# Altium schematic symbol library ECE453Spring16.SchLib: 43 symbols
Pins are listed as number, name and electrical type; pins without a type are passive.

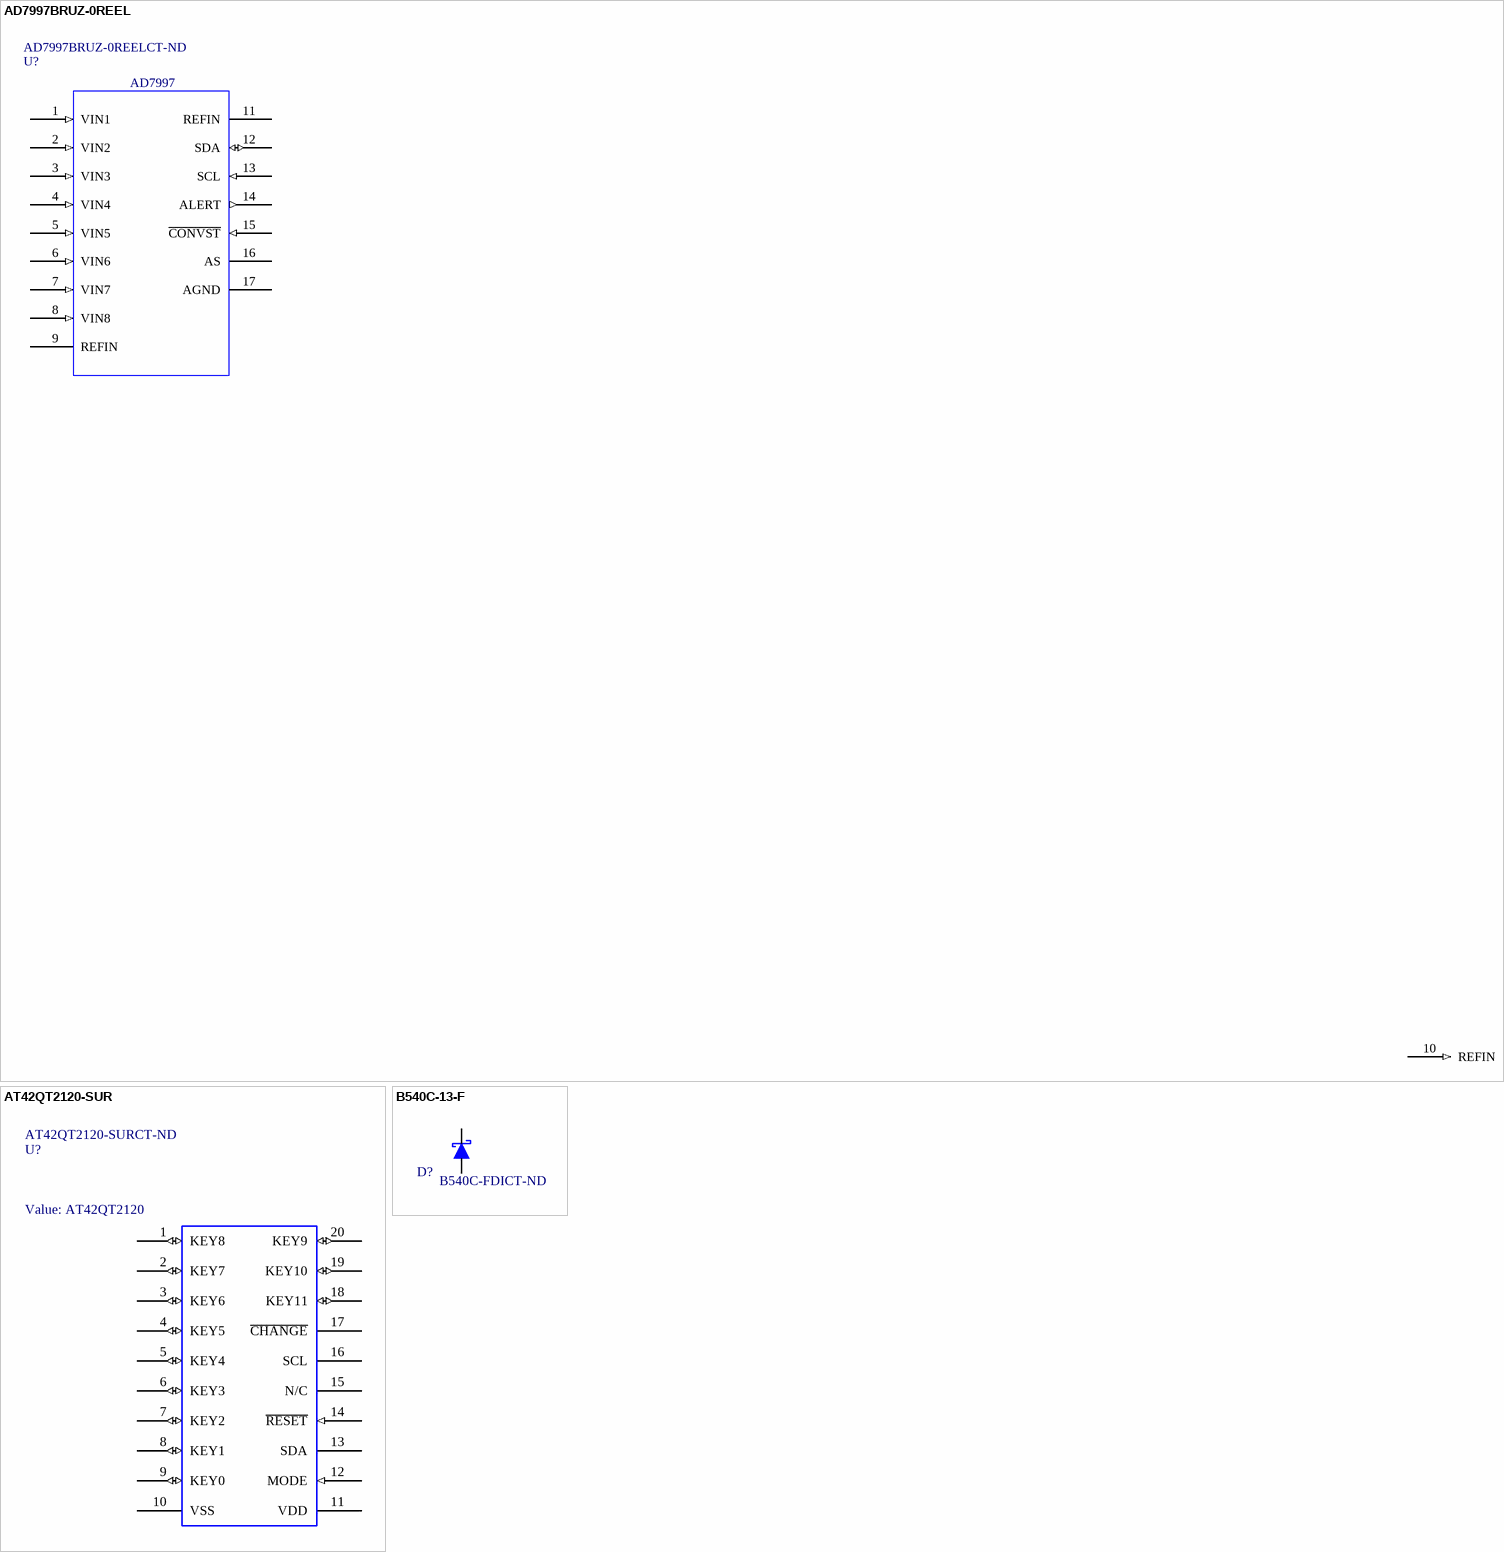
[diagram p0: symbols AD7997BRUZ-0REEL to B540C-13-F]

## AD7997BRUZ-0REEL
designator U?  value AD7997  Supplier Part Number 1: AD7997BRUZ-0REELCT-ND  (hidden comment: AD7997BRUZ-0REEL)
ADC- 8 channel for flex sensors; Manufacturer: Analog Devices Inc.; Number of Bits: 10; Sampling Rate (Per Second): 188k; Number of Inputs: 8; Input Type: Single Ended; Data Interface: I²C; Configuration: MUX-S/H-ADC; Ratio - S/H:ADC: 1:1; Number of A/D Converters: 1; Architecture: SAR; Reference Type: External; Voltage - Supply, Analog: 2.7 V ~ 5.5 V; Supplier 1: Digi-Key; Manufacturer Part Number: AD7997BRUZ-0REEL; RoHS: RoHS Compliant; Category: Integrated Circuits (ICs); Stock 1: 3543; Pricing 1: 1=5.65, 10=5.074, 100=4.1627, 500=3.54142, 1000=2.98224 (USD); Packaging: Cut Tape (CT); Voltage - Supply, Digital: 2.7 V ~ 5.5 V; Features: -; Operating Temperature: -40°C ~ 85°C; Package / Case: 20-TSSOP (0.173", 4.40mm Width); Supplier Device Package: 20-TSSOP; ComponentLink1URL: http://www.analog.com/media/en/technical-documentation/data-sheets/AD7997_7998.pdf; ComponentLink1Description: http://www.analog.com/media/en/technical-documentation/data-sheets/AD7997_7998.pdf
pins: 1 VIN1 (in), 2 VIN2 (in), 3 VIN3 (in), 4 VIN4 (in), 5 VIN5 (in), 6 VIN6 (in), 7 VIN7 (in), 8 VIN8 (in), 9 REFIN, 10 REFIN (in), 11 REFIN, 12 SDA (io), 13 SCL (in), 14 ALERT (out), 15 ~{CONVST} (in), 16 AS, 17 AGND

## AT42QT2120-SUR
designator U?  value AT42QT2120  Supplier Part Number 1: AT42QT2120-SURCT-ND  (hidden comment: AT42QT2120-SUR)
IC TOUCH SENSOR 12CH 20SOIC; Manufacturer: Atmel; Proximity Detection: Yes; Number of Inputs: Up to 12; LED Driver Channels: Up to 10; Interface: I²C; Voltage - Supply: 1.8 V ~ 5.5 V; Supplier 1: Digi-Key; Manufacturer Part Number: AT42QT2120-SUR; RoHS: RoHS Compliant; Category: Sensors, Transducers; Stock 1: 1214; Pricing 1: 1=2.7, 10=2.436, 25=2.1828, 100=1.9627, 250=1.74276, 500=1.5228 (USD); Packaging: Cut Tape (CT); Type: Buttons, Slider, Wheel; Resolution: -; Current - Supply: -; Operating Temperature: -40°C ~ 85°C; Package / Case: 20-SOIC (0.295", 7.50mm Width); Supplier Device Package: 20-SOIC; ComponentLink1URL: http://www.atmel.com/images/doc9634.pdf; ComponentLink1Description: http://www.atmel.com/images/doc9634.pdf
footprint SOIC127P1030X265-20N (SOIC, 20-Leads, Body 12.80x7.50mm, Pitch 1.27mm, IPC Medium Density)
pins: 1 KEY8 (io), 2 KEY7 (io), 3 KEY6 (io), 4 KEY5 (io), 5 KEY4 (io), 6 KEY3 (io), 7 KEY2 (io), 8 KEY1 (io), 9 KEY0 (io), 10 VSS, 11 VDD, 12 MODE (in), 13 SDA, 14 ~{RESET} (in), 15 N/C, 16 SCL, 17 ~{CHANGE}, 18 KEY11 (io), 19 KEY10 (io), 20 KEY9 (io)

## B540C-13-F
designator D?  Supplier Part Number 1: B540C-FDICT-ND  (hidden comment: *)
5A pwr regulator diode; Manufacturer: Diodes Incorporated; Manufacturer Part Number: B540C-13-F; Description: DIODE SCHOTTKY 40V 5A SMC; Diode Type: Schottky; Voltage - DC Reverse (Vr) (Max): 40V; Voltage - Forward (Vf) (Max) @ If: 550mV @ 5A; Speed: Fast Recovery =< 500ns, > 200mA (Io); Current - Reverse Leakage @ Vr: 500µA @ 40V; Capacitance @ Vr, F: 300pF @ 4V, 1MHz; Supplier 1: Digi-Key; RoHS: RoHS Compliant; Category: Discrete Semiconductor Products; Stock 1: 29411; Pricing 1: 1=0.5, 10=0.426, 100=0.3179, 500=0.2497, 1000=0.1925 (USD); Packaging: Cut Tape (CT); Current - Average Rectified (Io): 5A; Reverse Recovery Time (trr): -; Mounting Type: Surface Mount; Package / Case: DO-214AB, SMC; Supplier Device Package: SMC; Operating Temperature - Junction: -55°C ~ 125°C; ComponentLink1URL: http://www.diodes.com/_files/datasheets/ds13012.pdf; ComponentLink1Description: http://www.diodes.com/_files/datasheets/ds13012.pdf
pins: ?1, ?2

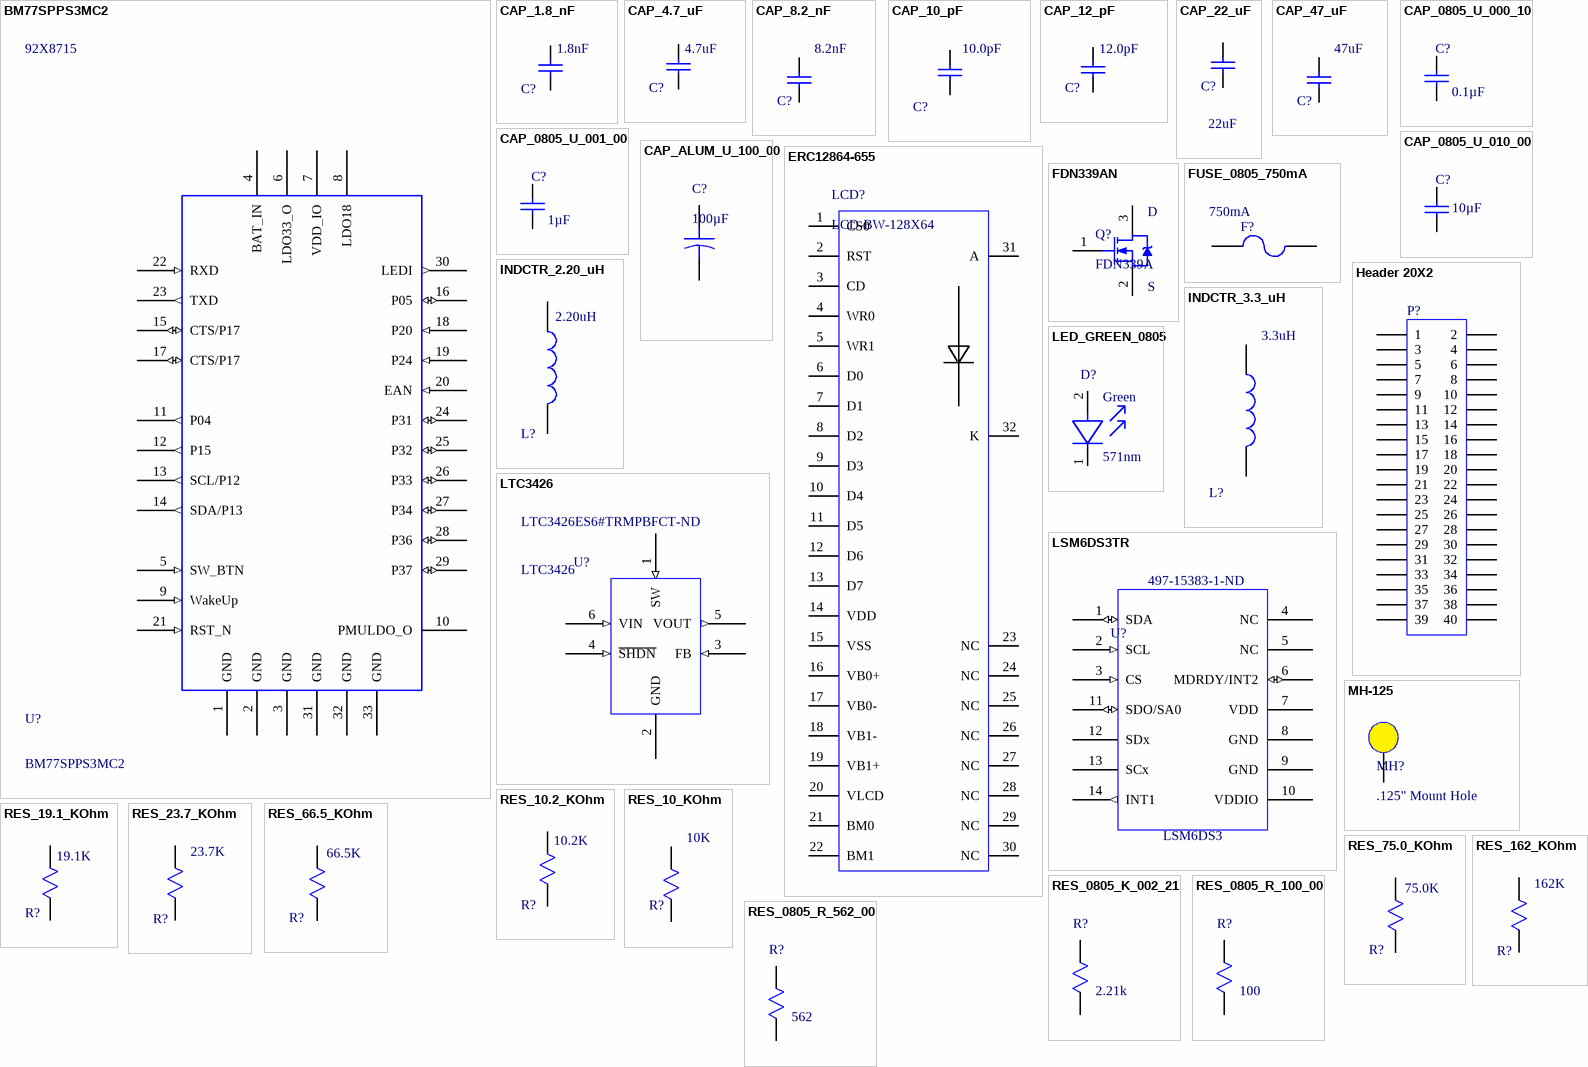
[diagram p1: symbols BM77SPPS3MC2 to RES_0805_R_562_00]

## BM77SPPS3MC2
designator U?  Supplier Part Number 1: 92X8715  (hidden comment: BM77SPPS3MC2)
Bluetooth BM77SPPS3MC2; Manufacturer: MICROCHIP; Manufacturer Part Number: BM77SPPS3MC2-0007AA; Supplier 1: Newark; RoHS: YES; Stock 1: 58; Pricing 1: 1=9.36, 26=8.49, 100=8.06 (USD); ComponentLink1URL: http://www.farnell.com/datasheets/1884772.pdf; ComponentLink1Description: http://www.farnell.com/datasheets/1884772.pdf; ComponentLink2URL: http://www.farnell.com/product360s/BM77SPPS3MC2-0007AA.php; ComponentLink2Description: http://www.farnell.com/product360s/BM77SPPS3MC2-0007AA.php; Value: BM77SPPS3MC2
footprint BM77SPPS3MC2 (Bluetooth BM77SPPS3MC2)
pins: 1 GND, 2 GND, 3 GND, 4 BAT_IN, 5 SW_BTN (in), 6 LDO33_O, 7 VDD_IO, 8 LDO18, 9 WakeUp (in), 10 PMULDO_O, 11 P04 (out), 12 P15 (out), 13 SCL/P12 (out), 14 SDA/P13 (out), 15 CTS/P17 (io), 16 P05 (io), 17 CTS/P17 (io), 18 P20 (in), 19 P24 (in), 20 EAN (in), 21 RST_N (in), 22 RXD (in), 23 TXD (out), 24 P31 (io), 25 P32 (io), 26 P33 (io), 27 P34 (io), 28 P36 (io), 29 P37 (io), 30 LEDI (out), 31 GND, 32 GND, 33 GND

## CAP_1.8_nF
designator C?  value 1.8nF  (hidden comment: CAP_1.8_nF)
CAP_1.8nF; Manufacturer: Murata Electronics North America; Manufacturer Part Number: GRM033R71A182KA01D; Description: CAP CER 1800PF 10V X7R 0201; Capacitance: 1800pF; Tolerance: ±10%; Voltage - Rated: 10V; Temperature Coefficient: X7R; Supplier 1: Digi-Key; RoHS: RoHS Compliant; Category: Capacitors; Stock 1: 15144; Pricing 1: 1=0.1, 10=0.025, 50=0.0136, 100=0.0116, 250=0.00944, 500=0.00808, 1000=0.0063, 5000=0.00525 (USD); Packaging: Cut Tape (CT); Mounting Type: Surface Mount, MLCC; Operating Temperature: -55°C ~ 125°C; Applications: General Purpose; Ratings: -; Package / Case: 0201 (0603 Metric); Size / Dimension: 0.024" L x 0.012" W (0.60mm x 0.30mm); Height - Seated (Max): -; Thickness (Max): 0.013" (0.33mm); Lead Spacing: -; Features: -; Lead Style: -; ComponentLink1URL: http://www.murata.com/~/media/webrenewal/support/library/catalog/products/capacitor/mlcc/c02e.pdf; ComponentLink1Description: http://www.murata.com/~/media/webrenewal/support/library/catalog/products/capacitor/mlcc/c02e.pdf; Supplier Part Number 1: 490-8160-1-ND
pins: 1, 2

## CAP_4.7_uF
designator C?  value 4.7uF  (hidden comment: CAP_4.7_uF)
CAP_4.7uF; Manufacturer: Kemet; Manufacturer Part Number: C1206C475K4PACTU; Description: CAP CER 4.7UF 16V X5R 1206; Capacitance: 4.7µF; Tolerance: ±10%; Voltage - Rated: 16V; Temperature Coefficient: X5R; Supplier 1: Digi-Key; RoHS: RoHS Compliant; Category: Capacitors; Stock 1: 42893; Pricing 1: 1=0.3, 10=0.205, 50=0.124, 100=0.1042, 250=0.08432, 500=0.0744, 1000=0.06324 (USD); Packaging: Cut Tape (CT); Mounting Type: Surface Mount, MLCC; Operating Temperature: -55°C ~ 85°C; Applications: General Purpose; Ratings: -; Package / Case: 1206 (3216 Metric); Size / Dimension: 0.126" L x 0.063" W (3.20mm x 1.60mm); Height - Seated (Max): -; Thickness (Max): 0.071" (1.80mm); Lead Spacing: -; Features: -; Lead Style: -; ComponentLink1URL: http://www.kemet.com/docfinder?Partnumber=C1206C475K4PACTU; ComponentLink1Description: http://www.kemet.com/docfinder?Partnumber=C1206C475K4PACTU; Supplier Part Number 1: 399-1265-1-ND
pins: 1, 2

## CAP_8.2_nF
designator C?  value 8.2nF  (hidden comment: CAP_8.2_nF)
CAP 8.2; Manufacturer: Murata Electronics; Manufacturer Part Number: GRM033R61A822KA01D; Capacitance: 8200 pF; Tolerance: 10 %; Type: General Purpose MLCC; Voltage Rating DC: 10 VDC; Dielectric: X5R; Supplier 1: Mouser; RoHS: RoHS Compliant; Category: Multilayer Ceramic Capacitors MLCC - SMD/SMT; Stock 1: 45161; Pricing 1: 1=0.100, 10=0.014, 100=0.009, 1000=0.007, 2500=0.006, 15000=0.004, 90000=0.003 (USD); Height: 0.3 mm; Length: 0.6 mm; Package / Case: 0201 (0603 metric); Packaging: Reel; Product: General Type MLCCs; Series: GRM; Termination Style: SMD/SMT; Width: 0.3 mm; Brand: Murata Electronics; Case Code - in: 0201; Case Code - mm: 0603; Maximum Operating Temperature: + 85 C; Minimum Operating Temperature: - 55 C; Standard Pack Qty: 15000; RoHS - Mouser: Y; Minimum Order Quantity: 1; Reeling: True; ComponentLink1URL: http://www.mouser.com/ds/2/281/c02e-2905.pdf; ComponentLink1Description: http://www.mouser.com/ds/2/281/c02e-2905.pdf; Supplier Part Number 1: 81-GRM033R61A822KA1D
pins: 1, 2

## CAP_10_pF
designator C?  value 10.0pF
CAP_10pF; Manufacturer: Kemet; Manufacturer Part Number: C0805C100M4GACTU; Capacitance: 10 pF; Tolerance: 20 %; Type: SMD MLCC C0G 10 - 250 VDC Commercial Grade; Voltage Rating DC: 16 VDC; Class: Class 1; Dielectric: C0G (NP0); Supplier 1: Mouser; RoHS: RoHS Compliant; Category: Multilayer Ceramic Capacitors MLCC - SMD/SMT; Stock 1: 24632; Pricing 1: 1=0.100, 10=0.028, 100=0.017, 1000=0.013, 4000=0.011, 8000=0.010, 24000=0.009, 48000=0.008, 100000=0.007 (USD); Height: -; Length: 2 mm; Package / Case: 0805 (2012 metric); Packaging: Reel; Product: General Type MLCCs; Series: C0805C; Termination Style: SMD/SMT; Voltage Rating AC: -; Width: 1.2 mm; Brand: Kemet; Case Code - in: 0805; Case Code - mm: 2012; Maximum Operating Temperature: + 125 C; Minimum Operating Temperature: - 55 C; Product Category: 0805 SMD Ceramic Chip Capacitors; Standard Pack Qty: 4000; RoHS - Mouser: Y; Minimum Order Quantity: 1; Reeling: True; ComponentLink1URL: http://www.mouser.com/ds/2/212/KEM_C1003_C0G_SMD-356956.pdf; ComponentLink1Description: http://www.mouser.com/ds/2/212/KEM_C1003_C0G_SMD-356956.pdf; Supplier Part Number 1: 80-C0805C100M4G
pins: 1, 2

## CAP_12_pF
designator C?  value 12.0pF  (hidden comment: CAP_12_pF)
CAP_12pF; Manufacturer: Yageo; Manufacturer Part Number: CC0805JRNPO9BN120; Description: CAP CER 12PF 50V NPO 0805; Capacitance: 12pF; Tolerance: ±5%; Voltage - Rated: 50V; Temperature Coefficient: C0G, NP0; Supplier 1: Digi-Key; RoHS: RoHS Compliant; Category: Capacitors; Stock 1: 44000; Pricing 1: 4000=0.0128, 8000=0.01169, 12000=0.01113, 28000=0.01057, 100000=0.00765 (USD); Packaging: Tape & Reel (TR); Mounting Type: Surface Mount, MLCC; Operating Temperature: -55°C ~ 125°C; Applications: General Purpose; Ratings: -; Package / Case: 0805 (2012 Metric); Size / Dimension: 0.079" L x 0.049" W (2.00mm x 1.25mm); Height - Seated (Max): -; Thickness (Max): 0.024" (0.60mm); Lead Spacing: -; Features: -; Lead Style: -; ComponentLink1URL: http://www.yageo.com/documents/recent/UPY-GP_NP0_16V-to-50V_10.pdf; ComponentLink1Description: http://www.yageo.com/documents/recent/UPY-GP_NP0_16V-to-50V_10.pdf; Supplier Part Number 1: 311-1100-2-ND
pins: 1, 2

## CAP_22_uF
designator C?  value 22uF  (hidden comment: CAP_22_uF)
CAP 22uF; Manufacturer: AVX; Manufacturer Part Number: 1210YD226KAT2A; Capacitance: 22 F; Capacitance Tolerance: 10%; Dielectric Characteristic: X5; Voltage Rating: 16; Ceramic Capacitor Case: 1210 [3225 Metric]; Supplier 1: Newark; RoHS: YES; Stock 1: 759; Pricing 1: 1=0.2, 10=0.2, 100=0.2, 250=0.2, 500=0.2 (USD); Product Range: -; Packaging: Cut Tape; ComponentLink1URL: http://www.avx.com/docs/Catalogs/cpack.pdf; ComponentLink1Description: http://www.avx.com/docs/Catalogs/cpack.pdf; ComponentLink2URL: http://www.farnell.com/datasheets/1796776.pdf; ComponentLink2Description: http://www.farnell.com/datasheets/1796776.pdf; Supplier Part Number 1: 84K8411
pins: 1, 2

## CAP_47_uF
designator C?  value 47uF  (hidden comment: CAP_47_uF)
CAP 47uF; Manufacturer: TDK Corporation; Manufacturer Part Number: C3216X5R1E476M160AC; Capacitance: 47µF; Tolerance: ±20%; Voltage - Rated: 25V; Temperature Coefficient: X5R; Supplier 1: Digi-Key; RoHS: RoHS Compliant; Category: Capacitors; Stock 1: 119209; Pricing 1: 1=1.25, 10=1.025, 100=0.725, 250=0.6, 500=0.5375, 1000=0.475 (USD); Packaging: Cut Tape (CT); Mounting Type: Surface Mount, MLCC; Operating Temperature: -55°C ~ 85°C; Applications: General Purpose; Ratings: -; Package / Case: 1206 (3216 Metric); Size / Dimension: 0.126" L x 0.063" W (3.20mm x 1.60mm); Height - Seated (Max): -; Thickness (Max): -; Lead Spacing: -; Features: -; Lead Style: -; ComponentLink1URL: https://product.tdk.com/info/en/catalog/datasheets/mlcc_commercial_general_en.pdf; ComponentLink1Description: https://product.tdk.com/info/en/catalog/datasheets/mlcc_commercial_general_en.pdf; Supplier Part Number 1: 445-8047-1-ND
pins: 1, 2

## CAP_0805_U_000_10
designator C?  value 0.1µF  (hidden comment: CAP_0805_U_000_10)
CAP CER 0.1UF 50V Y5V 0805; Manufacturer: Yageo; Manufacturer Part Number: CC0805ZRY5V9BB104; Tolerance: -20%, +80%; Temperature Coefficient: Y5V (F); Supplier 1: Digi-Key; Supplier Part Number 1: 311-1361-1-ND; RoHS: RoHS Compliant; Category: Capacitors; Stock 1: 86324; Pricing 1: 1=0.1, 10=0.031, 25=0.022, 100=0.0144, 250=0.01176, 500=0.01004, 1000=0.00783 (USD); Packaging: Cut Tape (CT); Voltage - Rated: 50V; Mounting Type: Surface Mount, MLCC; Operating Temperature: -30°C ~ 85°C; Applications: General Purpose; Ratings: -; Package / Case: 0805 (2012 Metric); Size / Dimension: 0.079" L x 0.049" W (2.00mm x 1.25mm); Height - Seated (Max): -; Thickness (Max): 0.024" (0.60mm); Lead Spacing: -; Features: -; Lead Style: -; ComponentLink1URL: http://www.yageo.com/documents/recent/UPY-GPHC_Y5V_6.3V-to-50V_5_revised.pdf; ComponentLink1Description: http://www.yageo.com/documents/recent/UPY-GPHC_Y5V_6.3V-to-50V_5_revised.pdf
footprint CAP_0805 (Chip Capacitor, 2-Leads, Body 2.00x1.25mm, IPC Medium Density)
pins: 1, 2

## CAP_0805_U_001_00
designator C?  value 1µF  (hidden comment: CAP_0805_U_001_00)
CAP CER 1UF 16V Y5V 0805; Manufacturer: Yageo; Manufacturer Part Number: CC0805ZRY5V7BB105; Tolerance: -20%, +80%; Temperature Coefficient: Y5V (F); Supplier 1: Digi-Key; Supplier Part Number 1: 311-1457-1-ND; RoHS: RoHS Compliant; Category: Capacitors; Stock 1: 136023; Pricing 1: 1=0.1, 10=0.043, 25=0.0304, 100=0.0197, 250=0.01616, 500=0.01382, 1000=0.01077 (USD); Packaging: Cut Tape (CT); Voltage - Rated: 16V; Mounting Type: Surface Mount, MLCC; Operating Temperature: -30°C ~ 85°C; Applications: General Purpose; Ratings: -; Package / Case: 0805 (2012 Metric); Size / Dimension: 0.079" L x 0.049" W (2.00mm x 1.25mm); Height - Seated (Max): -; Thickness (Max): 0.037" (0.95mm); Lead Spacing: -; Features: -; Lead Style: -; ComponentLink1URL: http://www.yageo.com/documents/recent/UPY-GPHC_Y5V_6.3V-to-50V_5_revised.pdf; ComponentLink1Description: http://www.yageo.com/documents/recent/UPY-GPHC_Y5V_6.3V-to-50V_5_revised.pdf
footprint CAP_0805 (Chip Capacitor, 2-Leads, Body 2.00x1.25mm, IPC Medium Density)
pins: 1, 2

## CAP_0805_U_010_00
designator C?  value 10µF  (hidden comment: CAP_0805_U_010_00)
CAP CER 10UF 10V X5R 0805; Manufacturer: Samsung Electro-Mechanics America, Inc.; Manufacturer Part Number: CL21A106KPCLQNC; Tolerance: ±10%; Supplier 1: Digi-Key; Supplier Part Number 1: 1276-2402-1-ND; RoHS: RoHS Compliant; Category: Capacitors; Stock 1: 97192; Pricing 1: 1=0.2, 10=0.14, 25=0.1052, 50=0.0806, 100=0.0665, 500=0.0469, 1000=0.0385 (USD); Packaging: Cut Tape (CT); Voltage - Rated: 10V; Temperature Coefficient: X5R; Mounting Type: Surface Mount, MLCC; Operating Temperature: -55°C ~ 85°C; Applications: General Purpose; Ratings: -; Package / Case: 0805 (2012 Metric); Size / Dimension: 0.079" L x 0.049" W (2.00mm x 1.25mm); Height - Seated (Max): -; Thickness (Max): 0.037" (0.95mm); Lead Spacing: -; Features: -; Lead Style: -; ComponentLink1URL: http://media.digikey.com/pdf/Data%20Sheets/Samsung%20PDFs/CL21A106KPCLQNC_character.pdf; ComponentLink1Description: http://media.digikey.com/pdf/Data%20Sheets/Samsung%20PDFs/CL21A106KPCLQNC_character.pdf
footprint CAP_0805 (Chip Capacitor, 2-Leads, Body 2.00x1.25mm, IPC Medium Density)
pins: 1, 2

## CAP_ALUM_U_100_00
designator C?, comment 100µF
CAP ALUM 100UF 20% 10V SMD; Manufacturer: Panasonic Electronic Components; Manufacturer Part Number: EEE-1AA101WR; Lifetime @ Temp.: 1000 Hrs @ 85°C; Ripple Current: 50mA; Surface Mount Land Size: 0.209" L x 0.209" W (5.30mm x 5.30mm); Supplier 1: Digi-Key; Supplier Part Number 1: PCE3867CT-ND; RoHS: RoHS Compliant; Category: Capacitors; Stock 1: 104778; Pricing 1: 1=0.44, 10=0.345, 25=0.2904, 50=0.249, 100=0.2076, 250=0.15568, 500=0.13284 (USD); Packaging: Cut Tape (CT); Value: 100µF; Tolerance: ±20%; Voltage Rating: 10V; ESR (Equivalent Series Resistance): -; Operating Temperature: -40°C ~ 85°C; Type: -; Applications: Automotive; Impedance: -; Lead Spacing: -; Size / Dimension: 0.197" Dia (5.00mm); Height - Seated (Max): 0.213" (5.40mm); Mounting Type: Surface Mount; Package / Case: Radial, Can - SMD; ComponentLink1URL: http://media.digikey.com/pdf/Data%20Sheets/Panasonic%20Electronic%20Components/S_Series_Type_V.pdf; ComponentLink1Description: http://media.digikey.com/pdf/Data%20Sheets/Panasonic%20Electronic%20Components/S_Series_Type_V.pdf
footprint PANACAP-C
pins: + 1, - 2

## ERC12864-655
designator LCD?, comment LCD-BW-128X64
footprint ERC12864-655 (B&W LCD 128X64 3.3V)
pins: 1 CS0, 2 RST, 3 CD, 4 WR0, 5 WR1, 6 D0, 7 D1, 8 D2, 9 D3, 10 D4, 11 D5, 12 D6, 13 D7, 14 VDD, 15 VSS, 16 VB0+, 17 VB0-, 18 VB1-, 19 VB1+, 20 VLCD, 21 BM0, 22 BM1, 23 NC, 24 NC, 25 NC, 26 NC, 27 NC, 28 NC, 29 NC, 30 NC, 31 A, 32 K

## FDN339AN
designator Q?, comment FDN339A
Nch MOSFET; Manufacturer: Fairchild Semiconductor; Manufacturer Part Number: FDN339AN; FET Type: MOSFET N-Channel, Metal Oxide; FET Feature: Logic Level Gate, 2.5V Drive; Drain to Source Voltage (Vdss): 20V; Current - Continuous Drain (Id) @ 25°C: 3A (Ta); Rds On (Max) @ Id, Vgs: 35 mOhm @ 3A, 4.5V; Vgs(th) (Max) @ Id: 1.5V @ 250µA; Gate Charge (Qg) @ Vgs: 10nC @ 4.5V; Input Capacitance (Ciss) @ Vds: 700pF @ 10V; Power - Max: 460mW; Supplier 1: Digi-Key; Supplier Part Number 1: FDN339ANCT-ND; RoHS: RoHS Compliant; Category: Discrete Semiconductor Products; Stock 1: 32837; Pricing 1: 1=0.54, 10=0.463, 100=0.3459, 500=0.27172, 1000=0.20948 (USD); Packaging: Cut Tape (CT); Mounting Type: Surface Mount; Package / Case: TO-236-3, SC-59, SOT-23-3; Supplier Device Package: 3-SSOT; ComponentLink1URL: http://www.fairchildsemi.com/datasheets/FD/FDN339AN.pdf; ComponentLink1Description: http://www.fairchildsemi.com/datasheets/FD/FDN339AN.pdf
footprint SOT23-3M (SOT23, 3-Leads, Body 2.9x1.3mm, Pitch 0.95mm, Lead Span 2.5mm, IPC Low Density)
pins: 1 G, 2 S, 3 D

## FUSE_0805_750mA
designator F?, comment 750mA
PTC RESTTBLE 0.75A 6V CHIP 0805; Manufacturer: Bel Fuse Inc.; Manufacturer Part Number: 0ZCK0075FF2E; Current - Max: 40A; Current - Trip (It): 1.5A; R Min/Max: 0.090 ~ 0.350 Ohm; Time to Trip: 0.2s; Supplier 1: Digi-Key; Supplier Part Number 1: 507-1814-1-ND; RoHS: RoHS Compliant; Category: Circuit Protection; Stock 1: 18309; Pricing 1: 1=0.19, 10=0.176, 25=0.1628, 100=0.1463, 250=0.13028, 500=0.10858, 1000=0.10288 (USD); Packaging: Cut Tape (CT); Voltage - Max: 6V; Package / Case: 0805 (2012 Metric), Concave; ComponentLink1URL: http://www.belfuse.com/pdfs/0ZCK.pdf; ComponentLink1Description: http://www.belfuse.com/pdfs/0ZCK.pdf; Current - Hold (Ih) (Max): 750mA
footprint FUSE_0805 (Chip Fuse, 2-Leads, Body 2.15x1.35mm, IPC Low Density)
pins: 1, 2

## Header 20X2
designator P?
Header, 20-Pin, Dual row; Manufacturer: Sullins Connector Solutions; Manufacturer Part Number: PRPC020DAAN-RC; Connector Type: Header, Unshrouded, Breakaway; Number of Positions: 40; Number of Positions Loaded: All; Pitch: 0.100" (2.54mm); LatestRevisionDate: 17-Jul-2002; LatestRevisionNote: Re-released for DXP Platform.; Publisher: Altium Limited; Supplier 1: Digi-Key; Supplier Part Number 1: S2011EC-20-ND; RoHS: RoHS Compliant; Category: Connectors, Interconnects; Stock 1: 501; Pricing 1: 1=0.93, 10=0.828, 100=0.6818, 500=0.53894, 1000=0.46264, 5000=0.42206, 10000=0.40583 (USD); Packaging: Bulk; Contact Type: Male Pin; Number of Rows: 2; Row Spacing: 0.100" (2.54mm); Contact Mating Length: 0.230" (5.84mm); Mounting Type: Through Hole; Termination: Solder; Fastening Type: -; Features: -; Contact Finish: Gold; Contact Finish Thickness: Flash; Color: Black; ComponentLink1URL: http://sullinscorp.com/drawings/294___R__C_____D___N-RC,_11636.pdf; ComponentLink1Description: http://sullinscorp.com/drawings/294___R__C_____D___N-RC,_11636.pdf
footprint HDR2X20 (Connector; Header; 20x2 Position)
signal-integrity model Connector
pins: 1, 2, 3, 4, 5, 6, 7, 8, 9, 10, 11, 12, 13, 14, 15, 16, 17, 18, 19, 20, 21, 22, 23, 24, 25, 26, 27, 28, 29, 30, 31, 32, 33, 34, 35, 36, 37, 38, 39, 40

## INDCTR_2.20_uH
designator L?  value 2.20uH  (hidden comment: INDCTR_2.20_uH)
Inductor 2.2uH; Manufacturer: Bourns Inc.; Manufacturer Part Number: SRN8040-2R2Y; Description: FIXED IND 2.2UH 6.3A 13 MOHM SMD; Type: Wirewound; Material - Core: Ferrite; Inductance: 2.2µH; Tolerance: ±30%; Current Rating: 6.3A; Current - Saturation: 7.4A; Shielding: Shielded; DC Resistance (DCR): 13 mOhm Max; Q @ Freq: 13 @ 7.96MHz; Frequency - Self Resonant: 40MHz; Frequency - Test: 100kHz; Supplier 1: Digi-Key; RoHS: RoHS Compliant; Category: Inductors, Coils, Chokes; Stock 1: 3527; Pricing 1: 1=0.58, 10=0.512, 25=0.48, 50=0.416, 100=0.384, 250=0.3648, 500=0.3328 (USD); Packaging: Cut Tape (CT); Ratings: -; Operating Temperature: -40°C ~ 125°C; Mounting Type: Surface Mount; Package / Case: Nonstandard; Size / Dimension: 0.315" L x 0.315" W (8.00mm x 8.00mm); Height - Seated (Max): 0.157" (4.00mm); ComponentLink1URL: http://www.bourns.com/docs/Product-Datasheets/SRN8040.pdf; ComponentLink1Description: http://www.bourns.com/docs/Product-Datasheets/SRN8040.pdf; Supplier Part Number 1: SRN8040-2R2YCT-ND
pins: ?1, ?2

## INDCTR_3.3_uH
designator L?  value 3.3uH
Inductor 3.3uH; Manufacturer: Bourns; Manufacturer Part Number: SDR1307-3R3ML; Maximum DC Current: 7.5 A; Maximum DC Resistance: 8.7 mOhms; Q Minimum: 26; Self Resonant Frequency: 38 MHz; Tolerance: 20 %; Supplier 1: Mouser; RoHS: RoHS Compliant; Category: Fixed Inductors; Stock 1: 344; Pricing 1: 1=0.830, 10=0.728, 50=0.624, 100=0.593, 250=0.507, 400=0.437, 800=0.346, 2400=0.337 (USD); Diameter: 13 mm; Height: 7 mm; Inductance: 3.3 uH; Packaging: Reel; Product: Power Inductors; Series: SDR1307; Termination Style: SMD/SMT; Width: 13 mm; Brand: Bourns; Mounting Style: SMD/SMT; Product Category: Inductors; Standard Pack Qty: 400; RoHS - Mouser: Y; Minimum Order Quantity: 1; Reeling: True; ComponentLink1URL: http://www.mouser.com/ds/2/54/DR1307-778385.pdf; ComponentLink1Description: http://www.mouser.com/ds/2/54/DR1307-778385.pdf; Supplier Part Number 1: 652-SDR1307-3R3ML
pins: ?1, ?2

## LED_GREEN_0805
designator D?  Color: Green  Wavelength - Dominant: 571nm
LED GREEN CLEAR 0805 SMD; Manufacturer: Lite-On Inc.; Manufacturer Part Number: LTST-C171KGKT; Lens Color: Colorless; Millicandela Rating: 35mcd; Lens Style/Size: Rectangle with Flat Top, 1.40mm x 1.25mm; Voltage - Forward (Vf) (Typ): 2V; Current - Test: 20mA; Viewing Angle: 130°; Wavelength - Peak: 574nm; Supplier 1: Digi-Key; Supplier Part Number 1: 160-1426-1-ND; RoHS: RoHS Compliant; Category: Optoelectronics; Stock 1: 82505; Pricing 1: 1=0.27, 10=0.213, 100=0.1161, 250=0.0774, 500=0.0658, 1000=0.05031 (USD); Packaging: Cut Tape (CT); Lens Transparency: Clear; Mounting Type: Surface Mount; Features: -; Package / Case: 0805 (2012 Metric); Supplier Device Package: *; Size / Dimension: 2.00mm L x 1.25mm W; Height (Max): 0.80mm; ComponentLink1URL: http://optoelectronics.liteon.com/upload/download/DS22-2000-118/S_110_LTST-C171KGKT.pdf; ComponentLink1Description: http://optoelectronics.liteon.com/upload/download/DS22-2000-118/S_110_LTST-C171KGKT.pdf
footprint LED_GREEN_0805 (Chip LED, 2-Leads, Body 2.00x1.25mm, IPC Medium Density)
pins: 1 Cathode, 2 Anode

## LSM6DS3TR
designator U?  value LSM6DS3  Supplier Part Number 1: 497-15383-1-ND  (hidden comment: LSM6DS3TR)
Gyroscope and accelerometer module; Manufacturer: STMicroelectronics; Sensor Type: Accelerometer, Gyroscope, 3 Axis; Output Type: I²C, SPI; Supplier 1: Digi-Key; Manufacturer Part Number: LSM6DS3TR; RoHS: RoHS Compliant; Category: Sensors, Transducers; Stock 1: 4972; Pricing 1: 1=4.18, 10=3.749, 100=3.0753, 500=2.6163, 1000=2.2032 (USD); Operating Temperature: -40°C ~ 85°C (TA); ComponentLink1URL: http://www.st.com/web/en/resource/technical/document/datasheet/DM00133076.pdf; ComponentLink1Description: http://www.st.com/web/en/resource/technical/document/datasheet/DM00133076.pdf
pins: 1 SDA (io), 2 SCL (in), 3 CS (in), 4 NC, 5 NC, 6 MDRDY/INT2 (io), 7 VDD, 8 GND, 9 GND, 10 VDDIO, 11 SDO/SA0 (io), 12 SDx, 13 SCx, 14 INT1 (out)

## LTC3426
designator U?  Supplier Part Number 1: LTC3426ES6#TRMPBFCT-ND  (hidden comment: LTC3426)
Voltage Step Up 3.6V to 5V for ADC; Manufacturer: Linear Technology; Manufacturer Part Number: LTC3426ES6#TRMPBF; Function: Step-Up; Output Configuration: Positive; Topology: Boost; Output Type: Adjustable; Number of Outputs: 1; Voltage - Input (Min): 1.6V; Voltage - Input (Max): 4.3V; Voltage - Output (Min/Fixed): 2.25V; Current - Output: 2A (Switch); Frequency - Switching: 1.2MHz; Synchronous Rectifier: No; Supplier 1: Digi-Key; RoHS: RoHS Compliant; Category: Integrated Circuits (ICs); Stock 1: 4175; Pricing 1: 1=4.16, 25=3.7184, 100=3.3467 (USD); Packaging: Cut Tape (CT); Voltage - Output (Max): 5V; Operating Temperature: -40°C ~ 85°C (TA); Mounting Type: Surface Mount; Package / Case: SOT-23-6 Thin, TSOT-23-6; Supplier Device Package: TSOT-23-6; ComponentLink1URL: http://www.linear.com/docs/6025; ComponentLink1Description: http://www.linear.com/docs/6025; Value: LTC3426
pins: 1 SW (in), 2 GND, 3 FB (in), 4 ~{SHDN} (in), 5 VOUT (out), 6 VIN (in)

## MH-125
designator MH?, comment .125" Mount Hole
.125" Mount Hole with .300" Keepout
footprint MTHOLE_125-300KeepOut (0.125 in Hole w 0.300 Keep Out)
pins: 1 "Pin 1"

## RES_10.2_KOhm
designator R?  value 10.2K  (hidden comment: RES_10.2_KOhm)
RES_10.2K; Manufacturer: Vishay / Dale; Manufacturer Part Number: CRCW040210K2FKED; Description: Thick Film Resistors - SMD 1/16watt 10.2Kohms 1%; Power Rating: 63 mW; Resistance: 10.2 kOhms; Temperature Coefficient: 100 PPM / K; Tolerance: 1 %; Voltage Rating: 50 V; Supplier 1: Mouser; RoHS: RoHS Compliant By Exemption; Category: Thick Film Resistors - SMD; Stock 1: 30506; Pricing 1: 1=0.100, 10=0.045, 100=0.026, 1000=0.018, 10000=0.006, 30000=0.005, 50000=0.004, 250000=0.003 (USD); Height: 0.35 mm; Length: 1 mm; Operating Temperature Range: - 55 C to + 155 C; Package / Case: 0402 (1005 metric); Packaging: Reel; Product: Thick Film Resistors SMD; Series: CRCW; Termination Style: SMD/SMT; Width: 0.5 mm; Brand: Vishay / Dale; Case Code - in: 0402; Case Code - mm: 1005; Product Category: 0402 Thick Film Chip Resistors; Standard Pack Qty: 10000; RoHS - Mouser: E; Minimum Order Quantity: 1; Reeling: True; ComponentLink1URL: http://www.mouser.com/ds/2/427/dcrcwe3-109170.pdf; ComponentLink1Description: http://www.mouser.com/ds/2/427/dcrcwe3-109170.pdf; Supplier Part Number 1: 71-CRCW0402-10.2K-E3
pins: 1, 2

## RES_10_KOhm
designator R?  value 10K  (hidden comment: RES_10_KOhm)
RES 10K; Manufacturer: Vishay Dale; Manufacturer Part Number: CRCW040210K0FKED; Tolerance: ±1%; Power (Watts): 0.063W, 1/16W; Temperature Coefficient: ±100ppm/°C; Supplier 1: Digi-Key; RoHS: RoHS Compliant; Category: Resistors; Stock 1: 2360512; Pricing 1: 10=0.083, 50=0.0444, 200=0.0255, 1000=0.0174 (USD); Packaging: Cut Tape (CT); Resistance (Ohms): 10k; Composition: Thick Film; Features: Automotive AEC-Q200; Operating Temperature: -55°C ~ 155°C; Package / Case: 0402 (1005 Metric); Supplier Device Package: 0402 (1005 Metric); Size / Dimension: 0.039" L x 0.020" W (1.00mm x 0.50mm); Height: 0.016" (0.40mm); Number of Terminations: 2; ComponentLink1URL: http://www.vishay.com/docs/20035/dcrcwe3.pdf; ComponentLink1Description: http://www.vishay.com/docs/20035/dcrcwe3.pdf; Supplier Part Number 1: 541-10.0KLCT-ND
pins: 1, 2

## RES_19.1_KOhm
designator R?  value 19.1K  (hidden comment: *)
RES_19.1K; Manufacturer: Vishay / Dale; Manufacturer Part Number: CRCW040219K1FKED; Description: Thick Film Resistors - SMD 1/16watt 19.1Kohms 1%; Power Rating: 63 mW; Resistance: 19.1 kOhms; Temperature Coefficient: 100 PPM / K; Tolerance: 1 %; Voltage Rating: 50 V; Supplier 1: Mouser; RoHS: RoHS Compliant By Exemption; Category: Thick Film Resistors - SMD; Stock 1: 27834; Pricing 1: 1=0.100, 10=0.045, 100=0.026, 1000=0.018, 10000=0.006, 30000=0.005, 50000=0.004, 250000=0.003 (USD); Height: 0.35 mm; Length: 1 mm; Operating Temperature Range: - 55 C to + 155 C; Package / Case: 0402 (1005 metric); Packaging: Reel; Product: Thick Film Resistors SMD; Series: CRCW; Termination Style: SMD/SMT; Width: 0.5 mm; Brand: Vishay / Dale; Case Code - in: 0402; Case Code - mm: 1005; Product Category: 0402 Thick Film Chip Resistors; Standard Pack Qty: 10000; RoHS - Mouser: E; Minimum Order Quantity: 1; Reeling: True; ComponentLink1URL: http://www.mouser.com/ds/2/427/dcrcwe3-109170.pdf; ComponentLink1Description: http://www.mouser.com/ds/2/427/dcrcwe3-109170.pdf; Supplier Part Number 1: 71-CRCW0402-19.1K-E3
pins: 1, 2

## RES_23.7_KOhm
designator R?  value 23.7K  (hidden comment: RES_23.7_KOhm)
RES 23.7K; Manufacturer: Vishay Dale; Manufacturer Part Number: CRCW040223K7FKED; Tolerance: ±1%; Power (Watts): 0.063W, 1/16W; Temperature Coefficient: ±100ppm/°C; Supplier 1: Digi-Key; RoHS: RoHS Compliant; Category: Resistors; Stock 1: 58875; Pricing 1: 10=0.083, 50=0.0444, 200=0.0255, 1000=0.0174 (USD); Packaging: Cut Tape (CT); Resistance (Ohms): 23.7k; Composition: Thick Film; Features: Automotive AEC-Q200; Operating Temperature: -55°C ~ 155°C; Package / Case: 0402 (1005 Metric); Supplier Device Package: 0402 (1005 Metric); Size / Dimension: 0.039" L x 0.020" W (1.00mm x 0.50mm); Height: 0.016" (0.40mm); Number of Terminations: 2; ComponentLink1URL: http://www.vishay.com/docs/20035/dcrcwe3.pdf; ComponentLink1Description: http://www.vishay.com/docs/20035/dcrcwe3.pdf; Supplier Part Number 1: 541-23.7KLCT-ND
pins: 1, 2

## RES_66.5_KOhm
designator R?  value 66.5K  (hidden comment: RES_66.5_KOhm)
RES_66.5K; Manufacturer: Vishay / Dale; Manufacturer Part Number: CRCW040266K5FKED; Description: Thick Film Resistors - SMD 1/16watt 66.5Kohms 1%; Power Rating: 63 mW; Resistance: 66.5 kOhms; Temperature Coefficient: 100 PPM / K; Tolerance: 1 %; Voltage Rating: 50 V; Supplier 1: Mouser; RoHS: RoHS Compliant By Exemption; Category: Thick Film Resistors - SMD; Stock 1: 32930; Pricing 1: 1=0.100, 10=0.045, 100=0.026, 1000=0.018, 10000=0.006, 30000=0.005, 50000=0.004, 250000=0.003 (USD); Height: 0.35 mm; Length: 1 mm; Operating Temperature Range: - 55 C to + 155 C; Package / Case: 0402 (1005 metric); Packaging: Reel; Product: Thick Film Resistors SMD; Series: CRCW; Termination Style: SMD/SMT; Width: 0.5 mm; Brand: Vishay / Dale; Case Code - in: 0402; Case Code - mm: 1005; Product Category: 0402 Thick Film Chip Resistors; Standard Pack Qty: 10000; RoHS - Mouser: E; Minimum Order Quantity: 1; Reeling: True; ComponentLink1URL: http://www.mouser.com/ds/2/427/dcrcwe3-109170.pdf; ComponentLink1Description: http://www.mouser.com/ds/2/427/dcrcwe3-109170.pdf; Supplier Part Number 1: 71-CRCW0402-66.5K-E3
pins: 1, 2

## RES_75.0_KOhm
designator R?  value 75.0K  (hidden comment: *)
RES_75K; Manufacturer: Vishay / Dale; Manufacturer Part Number: CRCW040275K0FKED; Description: Thick Film Resistors - SMD 1/16watt 75Kohms 1%; Power Rating: 63 mW; Resistance: 75 kOhms; Temperature Coefficient: 100 PPM / K; Tolerance: 1 %; Voltage Rating: 50 V; Supplier 1: Mouser; RoHS: RoHS Compliant By Exemption; Category: Thick Film Resistors - SMD; Stock 1: 73431; Pricing 1: 1=0.100, 10=0.045, 100=0.026, 1000=0.018, 10000=0.006, 30000=0.005, 50000=0.004, 250000=0.003 (USD); Height: 0.35 mm; Length: 1 mm; Operating Temperature Range: - 55 C to + 155 C; Package / Case: 0402 (1005 metric); Packaging: Reel; Product: Thick Film Resistors SMD; Series: CRCW; Termination Style: SMD/SMT; Width: 0.5 mm; Brand: Vishay / Dale; Case Code - in: 0402; Case Code - mm: 1005; Product Category: 0402 Thick Film Chip Resistors; Standard Pack Qty: 10000; RoHS - Mouser: E; Minimum Order Quantity: 1; Reeling: True; ComponentLink1URL: http://www.mouser.com/ds/2/427/dcrcwe3-109170.pdf; ComponentLink1Description: http://www.mouser.com/ds/2/427/dcrcwe3-109170.pdf; Supplier Part Number 1: 71-CRCW0402-75K-E3
pins: 1, 2

## RES_162_KOhm
designator R?  value 162K  (hidden comment: RES_162_KOhm)
RES 162K; Manufacturer: Vishay Dale; Manufacturer Part Number: CRCW0402162KFKED; Tolerance: ±1%; Power (Watts): 0.063W, 1/16W; Temperature Coefficient: ±100ppm/°C; Supplier 1: Digi-Key; RoHS: RoHS Compliant; Category: Resistors; Stock 1: 203075; Pricing 1: 10=0.083, 50=0.0444, 200=0.0255, 1000=0.0174 (USD); Packaging: Cut Tape (CT); Resistance (Ohms): 162k; Composition: Thick Film; Features: Automotive AEC-Q200; Operating Temperature: -55°C ~ 155°C; Package / Case: 0402 (1005 Metric); Supplier Device Package: 0402 (1005 Metric); Size / Dimension: 0.039" L x 0.020" W (1.00mm x 0.50mm); Height: 0.016" (0.40mm); Number of Terminations: 2; ComponentLink1URL: http://www.vishay.com/docs/20035/dcrcwe3.pdf; ComponentLink1Description: http://www.vishay.com/docs/20035/dcrcwe3.pdf; Supplier Part Number 1: 541-162KLCT-ND
pins: 1, 2

## RES_0805_K_002_21
designator R?  value 2.21k
RES SMD 2.21K OHM 1% 1/8W 0805; Manufacturer: Yageo; Manufacturer Part Number: RC0805FR-072K21L; Power (Watts): 0.125W, 1/8W; Temperature Coefficient: ±100ppm/°C; Supplier 1: Digi-Key; Supplier Part Number 1: 311-2.21KCRCT-ND; RoHS: RoHS Compliant; Category: Resistors; Stock 1: 159809; Pricing 1: 1=0.1, 10=0.021, 25=0.0152, 100=0.0084, 250=0.00644, 500=0.00514, 1000=0.00379, 2500=0.00329 (USD); Packaging: Cut Tape (CT); Tolerance: ±1%; Composition: Thick Film; Features: Moisture Resistant; Operating Temperature: -55°C ~ 155°C; Package / Case: 0805 (2012 Metric); Supplier Device Package: 0805; Size / Dimension: 0.079" L x 0.049" W (2.00mm x 1.25mm); Height: 0.024" (0.60mm); Number of Terminations: 2; ComponentLink1URL: http://www.yageo.com/NewPortal/yageodocoutput?fileName=/pdf/R-Chip/PYu-RC_Group_51_RoHS_L_3.pdf; ComponentLink1Description: http://www.yageo.com/NewPortal/yageodocoutput?fileName=/pdf/R-Chip/PYu-RC_Group_51_RoHS_L_3.pdf
footprint RES_0805 (Chip Resistor, 2-Leads, Body 2.00x1.25mm, IPC Medium Density)
pins: 1, 2

## RES_0805_R_100_00
designator R?  value 100
RES SMD 100 OHM 1% 1/8W 0805; Manufacturer: Yageo; Manufacturer Part Number: RC0805FR-07100RL; Power (Watts): 0.125W, 1/8W; Temperature Coefficient: ±100ppm/°C; Supplier 1: Digi-Key; Supplier Part Number 1: 311-100CRCT-ND; RoHS: RoHS Compliant; Category: Resistors; Stock 1: 1160362; Pricing 1: 1=0.1, 10=0.021, 25=0.0152, 100=0.0084, 250=0.00644, 500=0.00514, 1000=0.00379, 2500=0.00329 (USD); Packaging: Cut Tape (CT); Tolerance: ±1%; Composition: Thick Film; Features: Moisture Resistant; Operating Temperature: -55°C ~ 155°C; Package / Case: 0805 (2012 Metric); Supplier Device Package: 0805; Size / Dimension: 0.079" L x 0.049" W (2.00mm x 1.25mm); Height: 0.024" (0.60mm); Number of Terminations: 2; ComponentLink1URL: http://www.yageo.com/NewPortal/yageodocoutput?fileName=/pdf/R-Chip/PYu-RC_Group_51_RoHS_L_3.pdf; ComponentLink1Description: http://www.yageo.com/NewPortal/yageodocoutput?fileName=/pdf/R-Chip/PYu-RC_Group_51_RoHS_L_3.pdf
footprint RES_0805 (Chip Resistor, 2-Leads, Body 2.00x1.25mm, IPC Medium Density)
pins: 1, 2

## RES_0805_R_562_00
designator R?  value 562
RES SMD 562 OHM 1% 1/8W 0805; Manufacturer: Yageo; Manufacturer Part Number: RC0805FR-07562RL; Power (Watts): 0.125W, 1/8W; Temperature Coefficient: ±100ppm/°C; Supplier 1: Digi-Key; Supplier Part Number 1: 311-562CRCT-ND; RoHS: RoHS Compliant; Category: Resistors; Stock 1: 69944; Pricing 1: 1=0.1, 10=0.021, 25=0.0152, 100=0.0084, 250=0.00644, 500=0.00514, 1000=0.00379, 2500=0.00329 (USD); Packaging: Cut Tape (CT); Tolerance: ±1%; Composition: Thick Film; Features: Moisture Resistant; Operating Temperature: -55°C ~ 155°C; Package / Case: 0805 (2012 Metric); Supplier Device Package: 0805; Size / Dimension: 0.079" L x 0.049" W (2.00mm x 1.25mm); Height: 0.024" (0.60mm); Number of Terminations: 2; ComponentLink1URL: http://www.yageo.com/NewPortal/yageodocoutput?fileName=/pdf/R-Chip/PYu-RC_Group_51_RoHS_L_3.pdf; ComponentLink1Description: http://www.yageo.com/NewPortal/yageodocoutput?fileName=/pdf/R-Chip/PYu-RC_Group_51_RoHS_L_3.pdf
footprint RES_0805 (Chip Resistor, 2-Leads, Body 2.00x1.25mm, IPC Medium Density)
pins: 1, 2

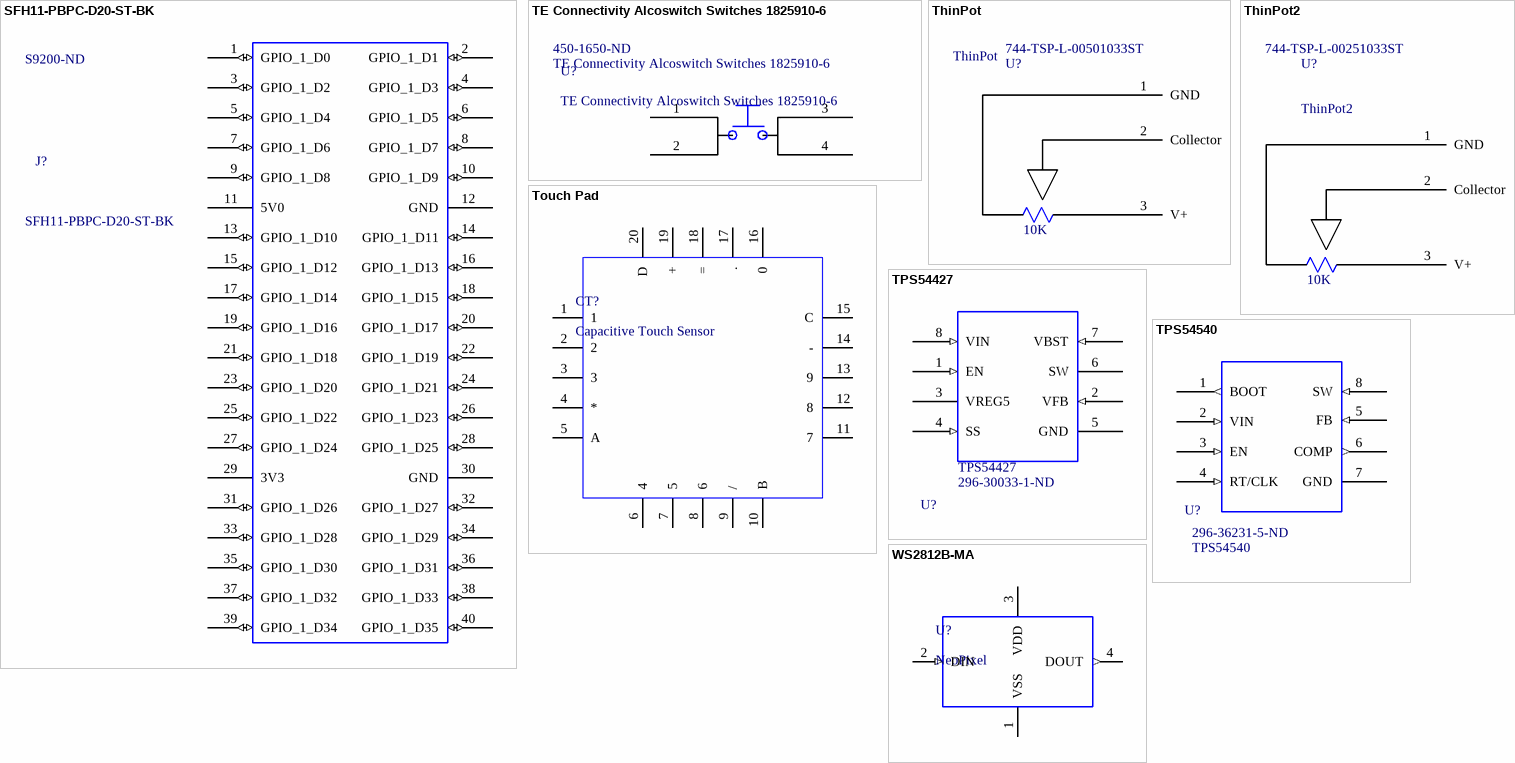
[diagram p2: symbols SFH11-PBPC-D20-ST-BK to WS2812B-MA]

## SFH11-PBPC-D20-ST-BK
designator J?  Supplier Part Number 1: S9200-ND  (hidden comment: SFH11-PBPC-D20-ST-BK)
GPIO_1_Header_Physical; Manufacturer: Sullins Connector Solutions; Connector Type: Header; Number of Positions: 40; Number of Positions Loaded: All; Pitch: 0.100" (2.54mm); Supplier 1: Digi-Key; Manufacturer Part Number: SFH11-PBPC-D20-ST-BK; RoHS: RoHS Compliant; Category: Connectors, Interconnects; Stock 1: 5662; Pricing 1: 1=2.31, 10=1.913, 25=1.7932, 50=1.594, 100=1.4346, 250=1.32304, 500=1.1955, 1000=1.06001, 2500=1.01618 (USD); Packaging: Tray; Contact Type: Female Socket; Number of Rows: 2; Row Spacing: 0.100" (2.54mm); Mounting Type: Through Hole; Termination: Solder; Fastening Type: -; Features: Polarizing Key; Contact Finish: Gold; Contact Finish Thickness: Flash; Color: Black; ComponentLink1URL: http://sullinscorp.com/catalogs/146_PAGE119_.100_SFH11_SERIES_FEMALE_HDR_ST_RA.pdf; ComponentLink1Description: http://sullinscorp.com/catalogs/146_PAGE119_.100_SFH11_SERIES_FEMALE_HDR_ST_RA.pdf; Value: SFH11-PBPC-D20-ST-BK
footprint Sullins_SFH11-PBPC-D20-ST-BK (CONN HEADER .100" 40 POS)
pins: 1 GPIO_1_D0 (io), 2 GPIO_1_D1 (io), 3 GPIO_1_D2 (io), 4 GPIO_1_D3 (io), 5 GPIO_1_D4 (io), 6 GPIO_1_D5 (io), 7 GPIO_1_D6 (io), 8 GPIO_1_D7 (io), 9 GPIO_1_D8 (io), 10 GPIO_1_D9 (io), 11 5V0, 12 GND, 13 GPIO_1_D10 (io), 14 GPIO_1_D11 (io), 15 GPIO_1_D12 (io), 16 GPIO_1_D13 (io), 17 GPIO_1_D14 (io), 18 GPIO_1_D15 (io), 19 GPIO_1_D16 (io), 20 GPIO_1_D17 (io), 21 GPIO_1_D18 (io), 22 GPIO_1_D19 (io), 23 GPIO_1_D20 (io), 24 GPIO_1_D21 (io), 25 GPIO_1_D22 (io), 26 GPIO_1_D23 (io), 27 GPIO_1_D24 (io), 28 GPIO_1_D25 (io), 29 3V3, 30 GND, 31 GPIO_1_D26 (io), 32 GPIO_1_D27 (io), 33 GPIO_1_D28 (io), 34 GPIO_1_D29 (io), 35 GPIO_1_D30 (io), 36 GPIO_1_D31 (io), 37 GPIO_1_D32 (io), 38 GPIO_1_D33 (io), 39 GPIO_1_D34 (io), 40 GPIO_1_D35 (io)

## TE Connectivity Alcoswitch Switches 1825910-6
designator U?  Supplier Part Number 1: 450-1650-ND
Push buttons to handle playback; Circuit: SPST-NO; Switch Function: Off-Mom; Contact Rating @ Voltage: 0.05A @ 24VDC; Actuator Type: Standard; Actuator Height off PCB, from Pins: 5.00mm; Actuator Orientation: Top Actuated; Outline: 6.00mm x 6.00mm; Illumination: Non-Illuminated; Operating Force: 160gf; Actuator Material: Polybutylene Terephthalate (PBT); Switch Travel: 0.25mm; Mechanical Life: 100,000 Cycles; Supplier 1: Digi-Key; Manufacturer: TE Connectivity Alcoswitch Switches; Manufacturer Part Number: 1825910-6; RoHS: RoHS Compliant; Category: Switches; Stock 1: 50462; Pricing 1: 1=0.11, 25=0.1012, 50=0.0912, 100=0.0869, 250=0.08028, 500=0.07698, 1000=0.06268, 2000=0.05609, 5000=0.05278 (USD); Packaging: Bulk; Mounting Type: Through Hole; Termination Style: PC Pin; Illumination Voltage (Nominal): -; Illumination Type, Color: -; Ingress Protection: -; Features: -; Operating Temperature: -35°C ~ 85°C; ComponentLink1URL: http://www.te.com/commerce/DocumentDelivery/DDEController?Action=srchrtrv&DocNm=1825910&DocType=Customer+Drawing&DocLang=English; ComponentLink1Description: http://www.te.com/commerce/DocumentDelivery/DDEController?Action=srchrtrv&DocNm=1825910&DocType=Customer+Drawing&DocLang=English; Value: TE Connectivity Alcoswitch Switches 1825910-6
pins: 1, 2, 3, 4

## ThinPot
designator U?  Supplier Part Number 1: 744-TSP-L-00501033ST  (hidden comment: ThinPot)
Flex Sensor 50mm; Manufacturer: Spectra Symbol; Manufacturer Part Number: TSP-L-0050-103-3%-ST; Linearity: +/- 3 %; Output Type: Resistive; Resistance Range: 10 kOhms; Tolerance: 20 %; Voltage Rating: 500 VAC; Supplier 1: Mouser; RoHS: RoHS Compliant; Category: Industrial Motion & Position Sensors; Stock 1: 25; Pricing 1: 1=4.05, 10=3.74, 25=3.44, 50=3.24, 100=3.12, 250=3.04, 500=2.94, 1000=2.89 (USD); Packaging: Bulk; Product: Position Sensor; Temperature Range: - 40 C to + 50 C; Type: Linear Position Sensor; Brand: Spectra Symbol; Mounting Style: Solder; Maximum Operating Temperature: + 50 C; RoHS - Mouser: Y; Minimum Order Quantity: 1; Reeling: False; ComponentLink1URL: http://www.mouser.com/ds/2/381/THINPOT_DATASHEET_REV_A1-198384.pdf; ComponentLink1Description: http://www.mouser.com/ds/2/381/THINPOT_DATASHEET_REV_A1-198384.pdf; Value: ThinPot
pins: 1 GND, 2 Collector, 3 V+
text: 10K

## ThinPot2
designator U?  Supplier Part Number 1: 744-TSP-L-00251033ST  (hidden comment: ThinPot2)
Flex Sensor 25mm; Manufacturer: Spectra Symbol; Manufacturer Part Number: TSP-L-0025-103-3%-ST; Linearity: +/- 3 %; Output Type: Resistive; Resistance Range: 10 kOhms; Tolerance: 20 %; Voltage Rating: 500 VAC; Supplier 1: Mouser; RoHS: RoHS Compliant; Category: Industrial Motion & Position Sensors; Stock 1: 26; Pricing 1: 1=3.44, 10=3.17, 25=2.92, 50=2.75, 100=2.65, 250=2.58, 500=2.50, 1000=2.45 (USD); Packaging: Tray; Product: Position Sensor; Temperature Range: - 40 C to + 50 C; Type: Linear Position Sensor; Brand: Spectra Symbol; Mounting Style: Solder; Maximum Operating Temperature: + 50 C; RoHS - Mouser: Y; Minimum Order Quantity: 1; Reeling: False; ComponentLink1URL: http://www.mouser.com/ds/2/381/THINPOT_DATASHEET_REV_A1-198384.pdf; ComponentLink1Description: http://www.mouser.com/ds/2/381/THINPOT_DATASHEET_REV_A1-198384.pdf; Value: ThinPot2
pins: 1 GND, 2 Collector, 3 V+
text: 10K

## Touch Pad
designator CT?, comment Capacitive Touch Sensor
footprint TOUCHPAD-12PIN (4X3 numeric touch pad)
pins: 1, 2, 3, 4 *, 5 A, 6 4, 7 5, 8 6, 9 /, 10 B, 11 7, 12 8, 13 9, 14 -, 15 C, 16 0, 17 ., 18 =, 19 +, 20 D

## TPS54427
designator U?  Supplier Part Number 1: 296-30033-1-ND  (hidden comment: TPS54427)
4A Regulator for Servos; Manufacturer: Texas Instruments; Manufacturer Part Number: TPS54427DDAR; Function: Step-Down; Output Configuration: Positive; Topology: Buck; Output Type: Adjustable; Number of Outputs: 1; Voltage - Input (Min): 4.5V; Voltage - Input (Max): 18V; Voltage - Output (Min/Fixed): 0.76V; Voltage - Output (Max): 7V; Frequency - Switching: 650kHz; Synchronous Rectifier: Yes; Supplier 1: Digi-Key; RoHS: RoHS Compliant; Category: Integrated Circuits (ICs); Stock 1: 7754; Pricing 1: 1=2.07, 10=1.856, 100=1.4892, 500=1.224, 1000=1.0132 (USD); Packaging: Cut Tape (CT); Current - Output: 4A; Operating Temperature: -40°C ~ 85°C (TA); Mounting Type: Surface Mount; Package / Case: 8-SOIC (0.154", 3.90mm Width) Exposed Pad; Supplier Device Package: 8-SO PowerPad; ComponentLink1URL: http://www.ti.com/lit/ds/symlink/tps54427.pdf; ComponentLink1Description: http://www.ti.com/lit/ds/symlink/tps54427.pdf; Value: TPS54427
footprint SOIC127P600X170_HS-9N (SOIC, 8-Leads, Body 4.90x3.90mm, Pitch 1.27mm, Thermal Pad 3.10x2.40mm, IPC Medium Density)
pins: 1 EN (in), 2 VFB (in), 3 VREG5, 4 SS (in), 5 GND, 6 SW, 7 VBST (in), 8 VIN (in)

## TPS54540
designator U?  Supplier Part Number 1: 296-36231-5-ND  (hidden comment: TPS54540)
5A Regulator for DC Motors; Manufacturer: Texas Instruments; Manufacturer Part Number: TPS54540DDA; Function: Step-Down; Output Configuration: Positive; Topology: Buck, Split Rail; Output Type: Adjustable; Number of Outputs: 1; Voltage - Input (Min): 4.5V; Voltage - Input (Max): 42V; Voltage - Output (Min/Fixed): 0.8V; Voltage - Output (Max): 41.1V; Frequency - Switching: 100kHz ~ 2.5MHz; Synchronous Rectifier: No; Supplier 1: Digi-Key; RoHS: RoHS Compliant; Category: Integrated Circuits (ICs); Stock 1: 1735; Pricing 1: 1=5.58, 10=5.012, 100=4.1067, 500=3.49596, 1000=2.6325 (USD); Packaging: Tube; Current - Output: 5A; Operating Temperature: -40°C ~ 150°C (TJ); Mounting Type: Surface Mount; Package / Case: 8-SOIC (0.154", 3.90mm Width) Exposed Pad; Supplier Device Package: 8-SO PowerPad; ComponentLink1URL: http://www.ti.com/lit/ds/symlink/tps54540.pdf; ComponentLink1Description: http://www.ti.com/lit/ds/symlink/tps54540.pdf; Value: TPS54540
footprint SOIC127P600X170_HS-9N_5A (SOIC, 8-Leads, Body 4.90x3.90mm, Pitch 1.27mm, Thermal Pad 3.10x2.40mm, IPC Medium Density)
pins: 1 BOOT (out), 2 VIN (in), 3 EN (in), 4 RT/CLK (in), 5 FB (in), 6 COMP (out), 7 GND, 8 SW (in)

## WS2812B-MA
designator U?, comment NeoPixel
LED RGB WS2812B; Manufacturer: Adafruit Industries LLC; Manufacturer Part Number: 1655; Supplier 1: Digi-Key; Supplier Part Number 1: 1528-1104-ND; RoHS: RoHS Compliant; Category: Optoelectronics; Stock 1: 672; Pricing 1: 1=4.5, 10=4.05 (USD); ComponentLink1URL: http://www.adafruit.com/datasheets/WS2812B.pdf; ComponentLink1Description: http://www.adafruit.com/datasheets/WS2812B.pdf
footprint WS2812B
pins: 1 VSS (power) "Power Supply", 2 DIN (in) "Control data signal output", 3 VDD (power) "Ground", 4 DOUT (out) "Control data signal input"